# Altium footprint library 2100LL221HRC.PcbLib: 1 footprints
Each footprint in its own frame and in the unit in brackets; x right, y up, seen from the top. Pads: shape width x height; smd on the part's side, far side on the other; paste and mask are expansions set on the pad; w line width, h text height; cw(c..) or ccw(c..) is an arc to the next point about the centre after c.
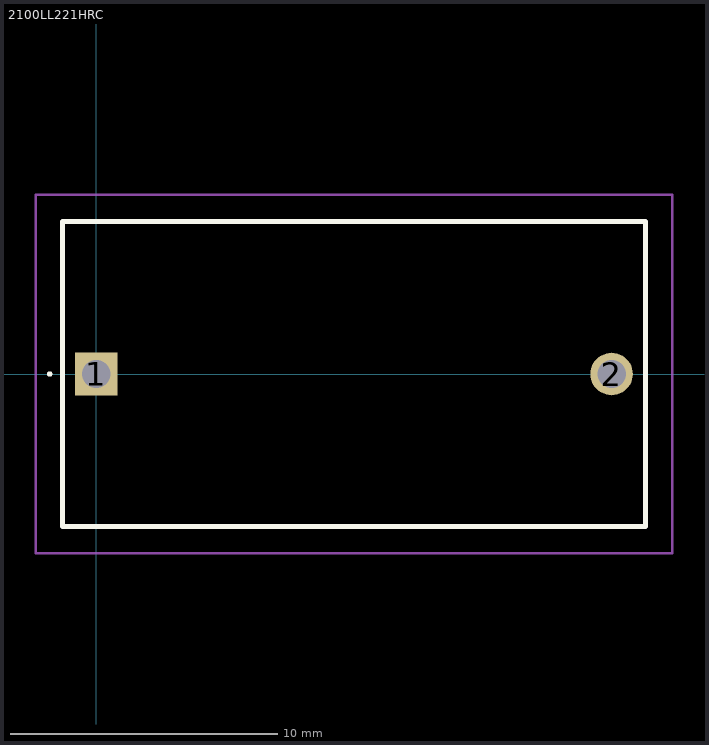
[diagram p0: the footprint, top view; thin cyan lines are the x and y axes]

## 2100LL221HRC [mil]
pads (2):
  rect 62.83x62.83 hole 41.89: 1(0,0)
  round 62.83 hole 41.89: 2(760,0)
Top Overlay:
  lines w3.94: -70.87,0 -70.87,0 ; -70.87,0 ccw(c-68.9,0) -66.93,0 ; -70.87,0 cw(c-68.9,0) -66.93,0 ; -66.93,0 -66.93,0
  lines w7.87: -50,-225 810,-225 810,225 -50,225 -50,-225
Mechanical 15:
  lines w3.94: -50,-225 810,-225 810,225 -50,225 -50,-225
Mechanical 20:
  lines w3.94: -89.37,-264.37 849.37,-264.37 849.37,264.37 -89.37,264.37 -89.37,-264.37